# Altium schematic symbol library RJ45.SchLib: 1 symbol
Pins are listed as number, name and electrical type; pins without a type are passive.

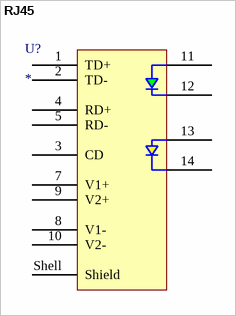
[diagram p0: symbol RJ45]

## RJ45
designator U?
Value: *
pins: 1 TD+, 2 TD-, 3 CD, 4 RD+, 5 RD-, 7 V1+, 8 V1-, 9 V2+ (power), 10 V2- (power), 11, 12, 13, 14, Shell Shield